# Altium schematic symbol library Capacitor_1210.SchLib: 3 symbols
Pins are listed as number, name and electrical type; pins without a type are passive.

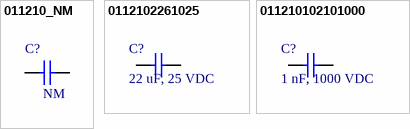
[diagram p0: symbols 011210_NM to 011210102101000]

## 011210_NM
designator C?, comment NM
CAP, size 1210, NM; Packaging: Tape and Reel; Capacitance: N/A; Supplier 1 URL: N/A; Supplier 2 URL: N/A; Supplier 3 URL: N/A; Tolerance: N/A; Voltage Rating DC: N/A; Value: NM; Supplier 1: Mouser; Supplier 1 Part Number: N/A; Supplier 2: Digi-Key; Supplier 2 Part Number: N/A; Supplier 3: thegioiic; Supplier 3 Part Number: N/A; Manufacturer: N/A; Manufacturer Part Number: N/A; ComponentLink1Description: Datasheet; ComponentLink1URL: N/A; Mount: SMD/SMT; Operating Temperature Max: + 85 C; Operating Temperature Min: - 40 C; Package / Case: 1210; LCSC Part #: N/A
footprint CAP_1210 (Chip Capacitor, 2-Leads, Body 3.20x1.60mm, IPC Medium Density)
pins: 1, 2

## 0112102261025
designator C?, comment 22 uF, 25 VDC
CAP, size 1210, 22 uF, 25 VDC, 10%; Manufacturer: Samsung Electro-Mechanics; Manufacturer Part Number: CL32B226KAJNNNE; Capacitance: 22 uF; Tolerance: +/-10%; Voltage Rating DC: 25 VDC; ComponentLink1Description: Datasheet; ComponentLink1URL: https://product.tdk.com/system/files/dam/doc/product/capacitor/ceramic/mlcc/catalog/mlcc_automotive_hightemp_en.pdf?ref_disty=mouser; LCSC Part #: C309062; Mount: SMD/SMT; Operating Temperature Max: + 125 C; Operating Temperature Min: - 55 C; Package / Case: 1210; Packaging: Tape and Reel; Supplier 1: Mouser; Supplier 1 Part Number: 187-CL32B226KAJNNNE; Supplier 1 URL: https://www.mouser.com/ProductDetail/Samsung-Electro-Mechanics/CL32B226KAJNNNE?qs=349EhDEZ59oxUqah7LWaWw%3D%3D; Supplier 2: Digi-Key; Supplier 2 Part Number: 1276-3392-2-ND; Supplier 2 URL: https://www.digikey.com/en/products/detail/samsung-electro-mechanics/cl32b226kajnnne/3889050; Supplier 3: thegioiic; Supplier 3 Part Number: N/A; Supplier 3 URL: N/A; Value: 22 uF, 25 VDC
footprint CAP_1210 (Chip Capacitor, 2-Leads, Body 3.20x1.60mm, IPC Medium Density)
pins: 1, 2

## 011210102101000
designator C?, comment 1 nF, 1000 VDC
CAP, size 1210, 1nF, 1000 VDC; Manufacturer: TDK; Manufacturer Part Number: C3225C0G3A102J200AE; Tolerance: +/-10%; Capacitance: 1 nF; Packaging: Tape and Reel; Supplier 1 URL: N/A; Supplier 2 URL: N/A; Supplier 3 URL: https://www.thegioiic.com/tu-gom-1210-1nf-1kv; Value: 1 nF, 1000 VDC; Voltage Rating DC: 1000 VDC; Supplier 1: Mouser; Supplier 1 Part Number: N/A; Supplier 2: Digi-Key; Supplier 2 Part Number: N/A; Supplier 3: thegioiic; Supplier 3 Part Number: OEM; ComponentLink1Description: Datasheet; ComponentLink1URL: https://product.tdk.com/system/files/dam/doc/product/capacitor/ceramic/mlcc/catalog/mlcc_commercial_soft_en.pdf?ref_disty=mouser; Mount: SMD/SMT; Operating Temperature Max: + 85 C; Operating Temperature Min: - 40 C; Package / Case: 1210; LCSC Part #: N/A
footprint CAP_1210 (Chip Capacitor, 2-Leads, Body 3.20x1.60mm, IPC Medium Density)
pins: 1, 2